# Altium schematic symbol library Резистор 0805.SchLib: 10 symbols
Pins are listed as number, name and electrical type; pins without a type are passive.

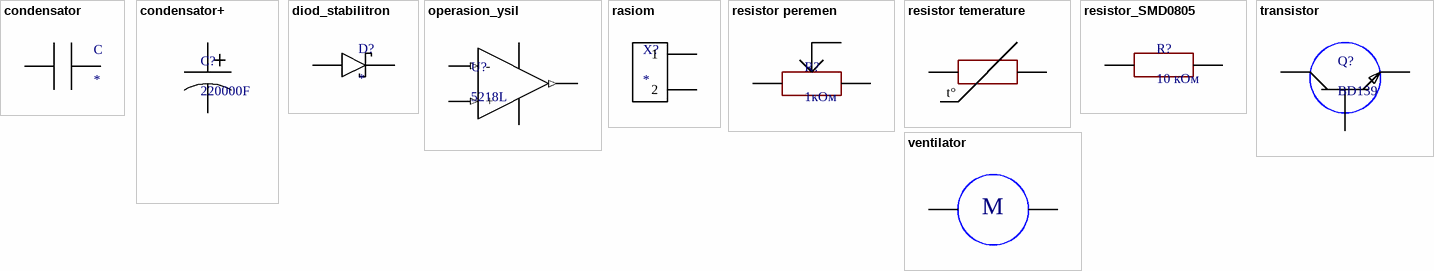
[diagram p0: symbols condensator to ventilator]

## condensator
designator C
Condensator_SDM_0805
footprint PCBComponent_1
pins: 1 2, 2 3

## condensator+
designator С?, comment 220000F
220000UF 20% 100V; partnamber: LNR2A224MSE; manufacture: Nichicon Corp.; href: https://www.chipdip.ru/product0/8005615214?from=suggest_product
footprint PCBComponent_1 - duplicate2
pins: 1 3, 2

## diod_stabilitron
designator D?
diod; manufacture: Diodes Incorporated; partnamber: D24V0S1U2TQ-7; href: https://www.chipdip.ru/product0/8004701593
footprint PCBComponent_1 - duplicate1
pins: 1 3, 2 3

## operasion_ysil
designator U?, comment 5218L
footprint PCBComponent_1 - duplicate4
pins: 1 0 (out), 2 - (in), 3 + (in), 4 GND, 8 VCC

## rasiom
designator X?
footprint PCBComponent_1 - duplicate3
pins: 1, 2

## resistor peremen
designator R?, comment 1кОм
footprint adj
pins: 1 2, 2, 3

## resistor temerature
designator R?, comment 1кОм  (value not drawn)
temperature: *; href: *
footprint Resistor SMD 0805
pins: 1 3, 2 3
text: t°

## resistor_SMD0805
designator R?, comment 10 кОм
Номинал: *; chrev: *; partnamber: *
footprint Resistor SMD 0805
pins: 1 3, 2

## transistor
designator Q?, comment BD139
href: *; manufacture: *; partnamber: *
footprint transistor
pins: 1 3, 2 4, 3

## ventilator
designator M?, comment FUN  (value not drawn)
Operating voltage: *; Pin: *; efficiency: *
footprint PCBComponent_1 - duplicate3
pins: 1 3, 2 3
text: M